# Altium footprint library RUEF400K.PcbLib: 1 footprints
Each footprint in its own frame and in the unit in brackets; x right, y up, seen from the top. Pads: shape width x height; smd on the part's side, far side on the other; paste and mask are expansions set on the pad; w line width, h text height; cw(c..) or ccw(c..) is an arc to the next point about the centre after c.
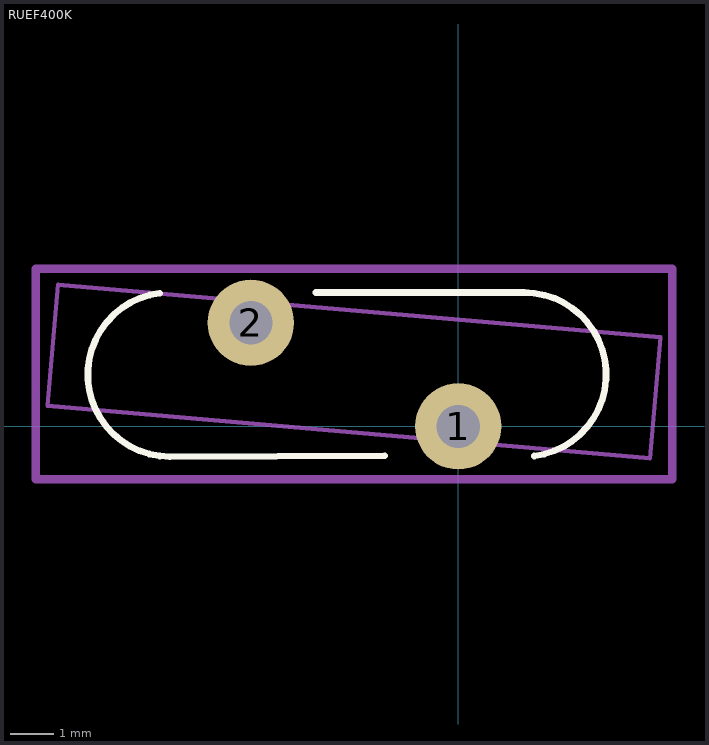
[diagram p0: the footprint, top view; thin cyan lines are the x and y axes]

## RUEF400K [mm]
pads (2):
  round 2 hole 1: 1(0,0) 2(-4.8,2.4)
Top Overlay:
  lines w0.152: -6.907,3.086 ccw(c-6.675,1.2) -6.675,-0.7 -1.702,-0.678 ; -3.301,3.1 1.525,3.1 ; 1.524,3.1 cw(c1.524,1.2) 1.756,-0.686
Top Assembly:
  lines w0.1: -9.509,0.48 -9.264,3.281 4.683,2.061 4.438,-0.741 -9.509,0.48
Top Courtyard:
  lines w0.2: -9.779,-1.225 4.953,-1.225 4.953,3.65 -9.779,3.65 -9.779,-1.225
3D body "User Library-TE_CONNECTIVITY_RUEF400.STEP": height 29.3, standoff -1, extent -9.509,-0.741 4.683,3.281